# EAGLE library part MAX4427CSA+-ND (library MAX4427CSA+-ND)
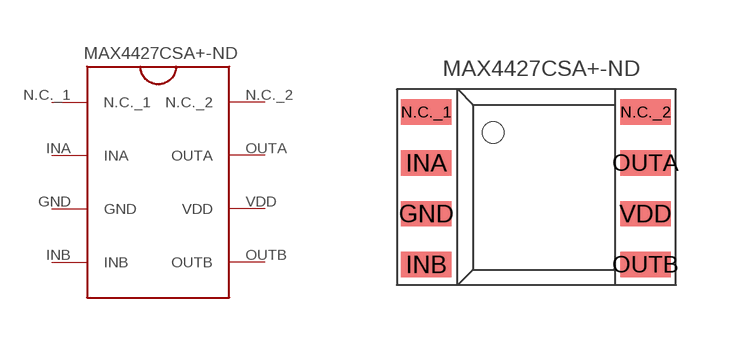
[diagram p0: symbol with the pads of MAX4427CSA+-ND; footprint MAX4427CSA+-ND]

Designator prefix -

## MAX4427CSA+-ND  [MAX4427CSA+-ND]
GND  GND
INA  INA
INB  INB
N.C._1  N.C._1
N.C._2  N.C._2
OUTA  OUTA
OUTB  OUTB
VDD  VDD

## Footprint MAX4427CSA+-ND (pad centres in mm)
smd 1.27 x 0.635: GND -2.946,-0.762; INA -2.946,0.508; INB -2.946,-2.032; N.C._1 -2.946,1.778; N.C._2 2.54,1.778; OUTA 2.54,0.508; OUTB 2.54,-2.032; VDD 2.54,-0.762